# EAGLE library part MX3 (library led)
Cree® XLamp® MX-3 LEDs Source: Data sheet <http://www.cree.com/products/pdf/XLampMX-3.pdf>
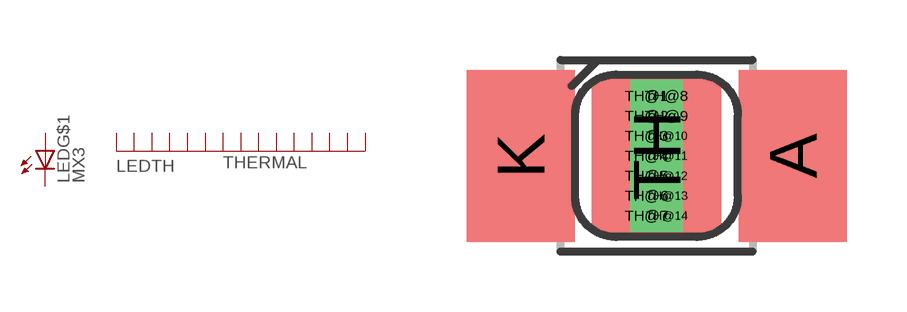
[diagram p32: symbol with the pads of MX6; footprint MX6]

Designator prefix LED; gates G$1=LED TH=THERMAL14+1

## MX3  [MX6]
A  G$1:A  pas
K  G$1:C  pas
TH  TH:TH  pas
TH@1  TH:TH  pas
TH@2  TH:TH  pas
TH@3  TH:TH  pas
TH@4  TH:TH  pas
TH@5  TH:TH  pas
TH@6  TH:TH  pas
TH@7  TH:TH  pas
TH@8  TH:TH  pas
TH@9  TH:TH  pas
TH@10  TH:TH  pas
TH@11  TH:TH  pas
TH@12  TH:TH  pas
TH@13  TH:TH  pas
TH@14  TH:TH  pas

## Footprint MX6 (pad centres in mm)
Cree® XLamp® MX-6 LEDs with cooling drills for FR4 Source: Data sheet <http://www.cree.com/products/pdf/XLampMX-6.pdf>
smd 2.7 x 4.3: A 3.4,0; K -3.4,0
smd 3.23 x 3.84: TH 0,0
drill 0.3 pad 0.5 square: TH@1 -0.25,1.5; TH@2 -0.25,1; TH@3 -0.25,0.5; TH@4 -0.25,0; TH@5 -0.25,-0.5; TH@6 -0.25,-1; TH@7 -0.25,-1.5; TH@8 0.25,1.5; TH@9 0.25,1; TH@10 0.25,0.5; TH@11 0.25,0; TH@12 0.25,-0.5; TH@13 0.25,-1; TH@14 0.25,-1.5